# Altium integrated library 2N2907_.IntLib: 1 symbol
Pins are listed as number, name and electrical type; pins without a type are passive.

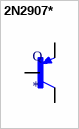
[diagram p0: symbol 2N2907*]

## 2N2907*
designator Q
Bipolar _BJT_ Transistor PNP 40V 600mA 200MHz 1.8W Through Hole TO-18; MP: 2N2907; MF: ON Semiconductor; Availability: Unavailable; SnapEDA_Link: https://www.snapeda.com/parts/2N2907/ON%20Semiconductor/view-part/13809/?ref=snap; Price: None; Package: TO-18 STMicroelectronics; Value: *
footprint TO92-EBC-OVAL
pins: B, C, E